# Altium footprint library Seeed-OPL-Inductor.PCBLIB: 25 footprints (part 1 of 2)
Each footprint in its own frame and in the unit in brackets; x right, y up, seen from the top. Pads: shape width x height; smd on the part's side, far side on the other; paste and mask are expansions set on the pad; w line width, h text height; cw(c..) or ccw(c..) is an arc to the next point about the centre after c.
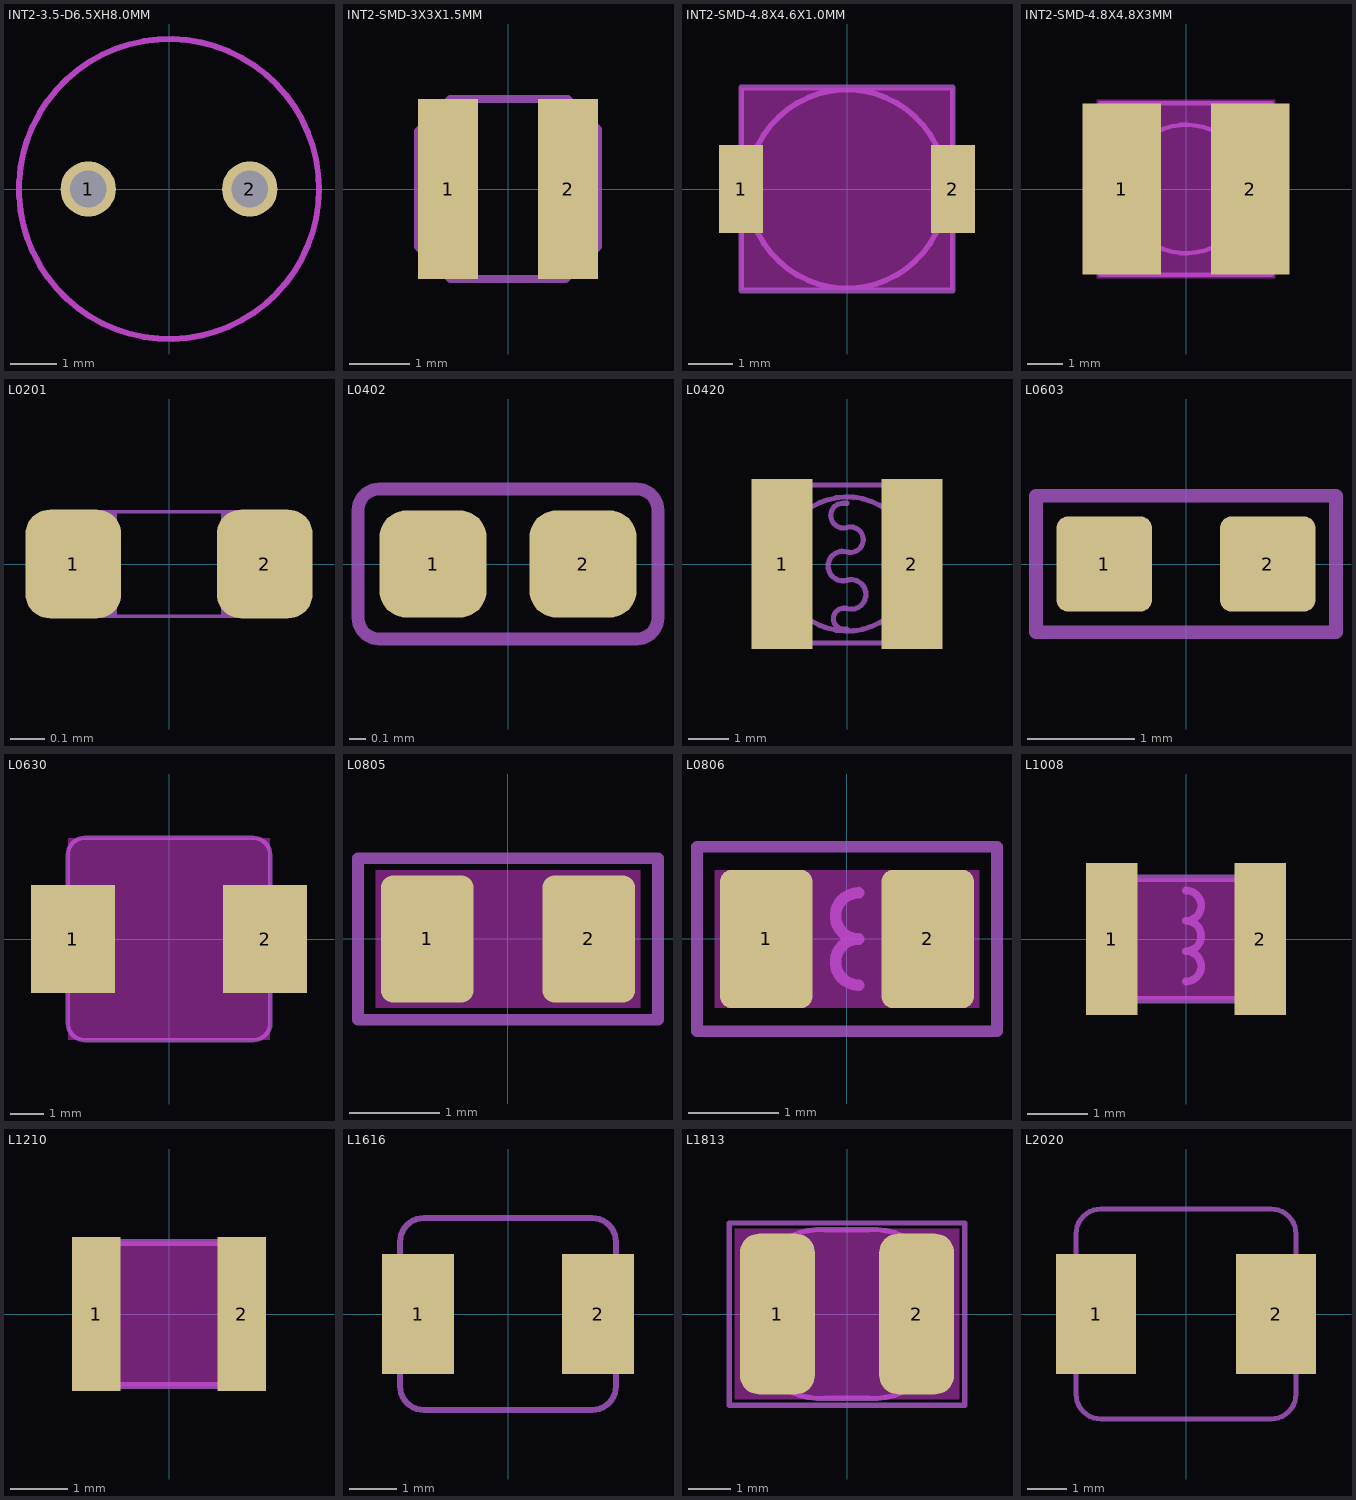
[diagram p0: the footprints below, top view; thin cyan lines are the x and y axes]

## INT2-3.5-D6.5XH8.0MM [mil]
pads (2):
  round 47.25 hole 31.5: 1(-68.9,0) 2(68.9,0)
Keep-Out Layer:
  circle w5: c0,0 r127.95
Mechanical 2:
  circle w5: c0,0 r127.95

## INT2-SMD-3X3X1.5MM [mm]
pads (2):
  rect 1x3 smd: 1(-1,0) 2(1,0)
Mechanical 2:
  lines w0.127: -0.45,-1.5 0.45,-1.5 ; -0.45,1.5 0.45,1.5
Mechanical 18:
  lines w0.127: -1.5,-0.964 -1.5,0.964 -0.964,1.5 0.995,1.5 1.5,0.995 1.5,-0.964 0.964,-1.5 -0.964,-1.5 -1.5,-0.964

## INT2-SMD-4.8X4.6X1.0MM [mm]
pads (2):
  rect 1x2 smd: 1(-2.4,0) 2(2.4,0)
Keep-Out Layer:
  rectangle: -2.413,-2.286 2.413,2.286
Mechanical 2:
  lines w0.127: -2.4,-1.1 -2.4,-2.3 2.4,-2.3 2.4,-1.1 ; -2.4,1.2 -2.4,2.3 2.4,2.3 2.4,1.1
Mechanical 18:
  circle w0.127: c0,0 r2.25
  lines w0.127: -2.4,-2.3 -2.4,2.3 ; 2.4,-2.3 2.4,2.3

## INT2-SMD-4.8X4.8X3MM [mil]
pads (2):
  rect 86.61x188.98 smd: 1(-70.87,0) 2(70.87,0)
Keep-Out Layer:
  rectangle: -98.43,-98.43 98.43,98.43
Mechanical 2:
  lines w5: -23.62,-94.49 23.62,-94.49 ; -23.62,94.49 23.62,94.49
Mechanical 18:
  circle w5: c0,0 r70.87
  lines w5: -94.49,-94.49 94.49,-94.49 94.49,94.49 -94.49,94.49 -94.49,-94.49

## L0201 [mil]
pads (2):
  rrect50% 11x12.5 smd: 1(-11,0) 2(11,0)
Mechanical 2:
  lines w0.39: -5.91,-6 5.91,-6 ; -5.91,6 5.91,6
Mechanical 18:
  rectangle: -12,-6 -6,6
  rectangle: 6,-6 12,6
  lines w0.39: -12,-6 12,-6 12,6 -12,6 -12,-6

## L0402 [mil]
pads (2):
  rrect50% 25x25 smd: 1(-17.5,0) 2(17.5,0)
Mechanical 2:
  lines w3: -35,-12.5 ccw(c-30,-12.5) -30,-17.5 30,-17.5 ccw(c30,-12.5) 35,-12.5 35,12.5 ccw(c30,12.5) 30,17.5 -30,17.5 ccw(c-30,12.5) -35,12.5 -35,-12.5

## L0420 [mil]
pads (2):
  rect 59.06x165.35 smd: 1(-62.99,0) 2(62.99,0)
Mechanical 2:
  lines w5: -31.5,-76.77 31.5,-76.77 ; -31.5,76.77 31.5,76.77 ; 0,-62.99 cw(c-2.87,-53.15) 0,-43.31 ccw(c4.02,-29.53) 0,-15.75 cw(c-4.02,-1.97) 0,11.81 ccw(c3.44,23.62) 0,35.43 cw(c-3.45,47.24) -15.75,47.24 cw(c-3.94,47.24) -3.94,59.06 0,59.06
Mechanical 18:
  circle w5: c0,0 r65.19
  lines w5: -76.77,-76.77 76.77,-76.77 76.77,76.77 -76.77,76.77 -76.77,-76.77

## L0603 [mil]
pads (2):
  rrect25% 35x35 smd: 1(-30,0) 2(30,0)
Mechanical 2:
  lines w5: -55,-25 55,-25 55,25 -55,25 -55,-25

## L0630 [mil]
pads (2):
  rect 98.43x125.98 smd: 1(-112.2,0) 2(112.2,0)
Keep-Out Layer:
  rectangle: -118.11,-118.11 118.11,118.11
Mechanical 2:
  lines w5: -118.11,-66.93 -118.11,-98.43 ccw(c-98.43,-98.43) -98.43,-118.11 98.43,-118.11 ccw(c98.43,-98.43) 118.11,-98.43 ; -118.11,98.43 cw(c-98.43,98.43) -98.43,118.11 98.43,118.11 cw(c98.43,98.43) 118.11,98.43 118.11,66.93 ; 118.11,-102.36 118.11,-66.93
Mechanical 18:
  lines w5: -118.11,-98.43 -118.11,98.43 ; 118.11,-98.43 118.11,98.43

## L0805 [mil]
pads (2):
  rrect25% 40x55 smd: 1(-35,0) 2(35,0)
Keep-Out Layer:
  rectangle: -57.5,-30 57.5,30
Mechanical 2:
  lines w5: -65,-35 65,-35 65,35 -65,35 -65,-35

## L0806 [mil]
pads (2):
  rrect25% 40x60 smd: 1(-35,0) 2(35,0)
Keep-Out Layer:
  rectangle: -57.5,-30 57.5,30
Mechanical 2:
  lines w5: 5,-20 cw(c5,-10) 5,0 cw(c5,10) 5,20 ; -65,-40 65,-40 65,40 -65,40 -65,-40

## L1008 [mil]
pads (2):
  rect 33.46x98.43 smd: 1(-48.23,0) 2(48.23,0)
Keep-Out Layer:
  rectangle: -49.21,-39.37 49.21,39.37
Mechanical 2:
  lines w5: -31.5,-39.37 31.5,-39.37 ; -31.5,39.37 31.5,39.37 ; 0,-27.56 ccw(c0,-17.71) 0,-7.87 ccw(c0,1.97) 0,11.81 ccw(c0,21.66) 0,31.5

## L1210 [mil]
pads (2):
  rect 33.46x106.3 smd: 1(-50.2,0) 2(50.2,0)
Keep-Out Layer:
  rectangle: -65,-50 60,50
Mechanical 2:
  lines w5: -31.5,-49.21 31.5,-49.21 ; -31.5,49.21 31.5,49.21
Mechanical 18:
  lines w5: -62.99,-49.21 62.99,-49.21 62.99,49.21 -62.99,49.21 -62.99,-49.21

## L1616 [mil]
pads (2):
  rect 60x100 smd: 1(-75,0) 2(75,0)
Mechanical 2:
  lines w5: -90,-60 ccw(c-70,-60) -70,-80 70,-80 ccw(c70,-60) 90,-60 ; -90,60 cw(c-70,60) -70,80 70,80 cw(c70,60) 90,60
Mechanical 18:
  lines w5: -90,-60 -90,60 ; 90,-60 90,60

## L1813 [mil]
pads (2):
  rrect50% 70x150 smd: 1(-65,0) 2(65,0)
Keep-Out Layer:
  rectangle: -105,-80 105,80
Mechanical 2:
  lines w5: -110,-85 110,-85 110,85 -110,85 -110,-85
Mechanical 18:
  lines w5: -88.58,-19.69 ccw(c-88.58,-0.01) -68.9,0 ccw(c-88.58,0.01) -88.58,19.69 cw(c-24.61,14.77) -19.69,78.74 19.69,78.74 cw(c24.61,14.77) 88.58,19.69 ccw(c88.58,0.01) 68.9,0 ccw(c88.58,-0.01) 88.58,-19.69 cw(c24.61,-14.77) 19.69,-78.74 -19.69,-78.74 cw(c-24.61,-14.77) -88.58,-19.69

## L2020 [mil]
pads (2):
  rect 80x120 smd: 1(-90,0) 2(90,0)
Mechanical 2:
  lines w5: -110,-70 -110,-80 ccw(c-85,-80) -85,-105 85,-105 ccw(c85,-80) 110,-80 110,-70 ; -110,70 -110,80 cw(c-85,80) -85,105 85,105 cw(c85,80) 110,80 110,70
Mechanical 18:
  lines w5: -110,-70 -110,70 ; 110,-70 110,70